# Altium schematic symbol library SparkFun-Jumpers.SCHLIB: 18 symbols
Pins are listed as number, name and electrical type; pins without a type are passive.

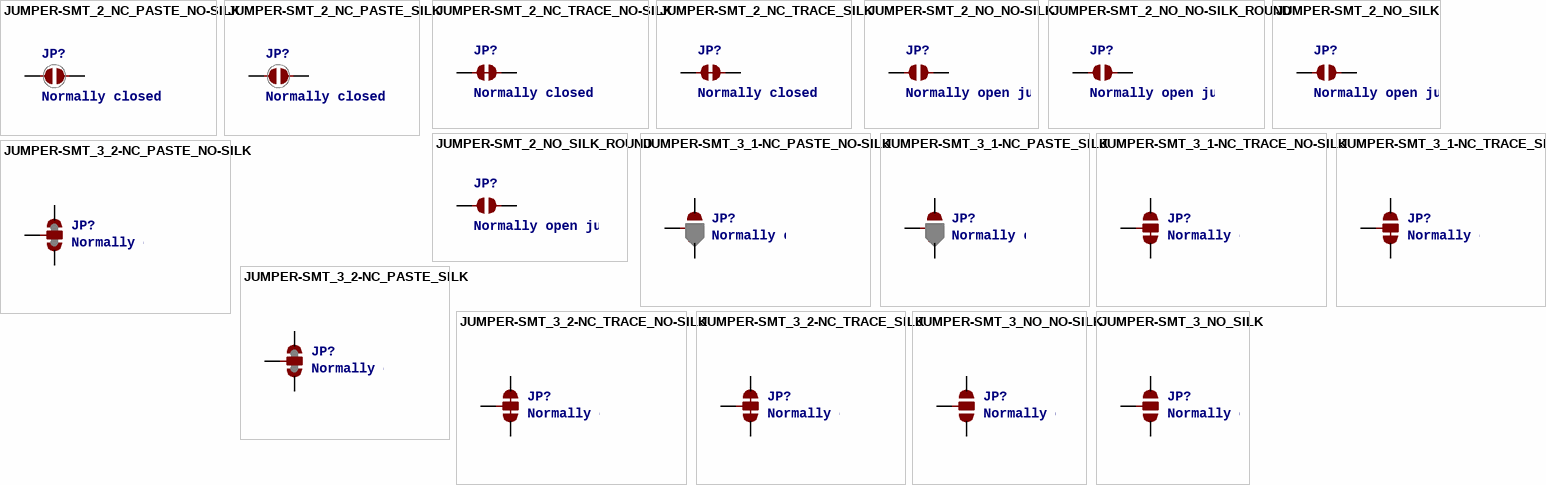
[diagram p0: symbols JUMPER-SMT_2_NC_PASTE_NO-SILK to JUMPER-SMT_3_NO_SILK]

## JUMPER-SMT_2_NC_PASTE_NO-SILK
designator JP?, comment Normally closed solder jumper    This jumper has an aperture in the stencil to allow solder paste to bridge the split in the wire so it's normally closed (NC). Wick off the solder to open the connection. Reapply solder to reclose the connection.
footprint SMT-JUMPER_2_NC_PASTE_NO-SILK
pins: 1, 2

## JUMPER-SMT_2_NC_PASTE_SILK
designator JP?, comment Normally closed solder jumper    This jumper has an aperture in the stencil to allow solder paste to bridge the split in the wire so it's normally closed (NC). Wick off the solder to open the connection. Reapply solder to reclose the connection.
footprint SMT-JUMPER_2_NC_PASTE_SILK
pins: 1, 2

## JUMPER-SMT_2_NC_TRACE_NO-SILK
designator JP?, comment Normally closed trace jumper    This jumper has a trace between two pads so it's normally closed (NC). Use a razor knife to open the connection. For best results follow the IPC guidelines for cutting traces: Cutout at least 0.063 mm (0.005 in).  Remove all loose material to clean up the cut area.  Seal the cut with an approved epoxy.       Reapply solder to reclose the connection.
footprint SMT-JUMPER_2_NC_TRACE_NO-SILK
pins: 1, 2

## JUMPER-SMT_2_NC_TRACE_SILK
designator JP?, comment Normally closed trace jumper    This jumper has a trace between two pads so it's normally closed (NC). Use a razor knife to open the connection. For best results follow the IPC guidelines for cutting traces: Cutout at least 0.063 mm (0.005 in).  Remove all loose material to clean up the cut area.  Seal the cut with an approved epoxy.       Reapply solder to reclose the connection.
footprint SMT-JUMPER_2_NC_TRACE_SILK
pins: 1, 2

## JUMPER-SMT_2_NO_NO-SILK
designator JP?, comment Normally open jumper    This jumper has two pads in close proximity to each other. Apply solder to close the connection.   Round pads are easier to solder for beginners, but are a lot larger.   SparkFun Product that uses the round pads:  SparkFun EL Sequencer
footprint SMT-JUMPER_2_NO_NO-SILK
pins: 1, 2

## JUMPER-SMT_2_NO_NO-SILK_ROUND
designator JP?, comment Normally open jumper    This jumper has two pads in close proximity to each other. Apply solder to close the connection.   Round pads are easier to solder for beginners, but are a lot larger.   SparkFun Product that uses the round pads:  SparkFun EL Sequencer
footprint SMT-JUMPER_2_NO_NO-SILK_ROUND
pins: 1, 2

## JUMPER-SMT_2_NO_SILK
designator JP?, comment Normally open jumper    This jumper has two pads in close proximity to each other. Apply solder to close the connection.   Round pads are easier to solder for beginners, but are a lot larger.   SparkFun Product that uses the round pads:  SparkFun EL Sequencer
footprint SMT-JUMPER_2_NO_SILK
pins: 1, 2

## JUMPER-SMT_2_NO_SILK_ROUND
designator JP?, comment Normally open jumper    This jumper has two pads in close proximity to each other. Apply solder to close the connection.   Round pads are easier to solder for beginners, but are a lot larger.   SparkFun Product that uses the round pads:  SparkFun EL Sequencer
footprint SMT-JUMPER_2_NO_SILK_ROUND
pins: 1, 2

## JUMPER-SMT_3_1-NC_PASTE_NO-SILK
designator JP?, comment Normally closed solder jumper (1 of 2 connections)    This jumper has an aperture in the stencil to allow solder paste to bridge one of the two connections. One connection is normally closed (NC), while the other is normally open (NO). Wick off the solder to open the connection. Reapply solder to reclose the connection. Apply solder to the other side instead to change the current path.
footprint SMT-JUMPER_3_1-NC_PASTE_NO-SILK
pins: 1, 2, 3

## JUMPER-SMT_3_1-NC_PASTE_SILK
designator JP?, comment Normally closed solder jumper (1 of 2 connections)    This jumper has an aperture in the stencil to allow solder paste to bridge one of the two connections. One connection is normally closed (NC), while the other is normally open (NO). Wick off the solder to open the connection. Reapply solder to reclose the connection. Apply solder to the other side instead to change the current path.
footprint SMT-JUMPER_3_1-NC_PASTE_SILK
pins: 1, 2, 3

## JUMPER-SMT_3_1-NC_TRACE_NO-SILK
designator JP?, comment Normally closed trace jumper (1 of 2 connections)    This jumper has a trace between two pads so it's normally closed (NC). The other connection is normally open (NO). Use a razor knife to open the connection. For best results follow the IPC guidelines for cutting traces: Cutout at least 0.063 mm (0.005 in).  Remove all loose material to clean up the cut area.  Seal the cut with an approved epoxy.       Reapply solder to reclose the connection, or to close the NO connection.
footprint SMT-JUMPER_3_1-NC_TRACE_NO-SILK
pins: 1, 2, 3

## JUMPER-SMT_3_1-NC_TRACE_SILK
designator JP?, comment Normally closed trace jumper (1 of 2 connections)    This jumper has a trace between two pads so it's normally closed (NC). The other connection is normally open (NO). Use a razor knife to open the connection. For best results follow the IPC guidelines for cutting traces: Cutout at least 0.063 mm (0.005 in).  Remove all loose material to clean up the cut area.  Seal the cut with an approved epoxy.       Reapply solder to reclose the connection, or to close the NO connection.
footprint SMT-JUMPER_3_1-NC_TRACE_SILK
pins: 1, 2, 3

## JUMPER-SMT_3_2-NC_PASTE_NO-SILK
designator JP?, comment Normally closed solder jumper (2 of 2 connections)    This jumper has an aperture in the stencil to allow solder paste to bridge both connections. Both connections are normally closed (NC). Wick off the solder to open the connection(s). Reapply solder to reclose the connection(s).
footprint SMT-JUMPER_3_2-NC_PASTE_NO-SILK
pins: 1, 2, 3

## JUMPER-SMT_3_2-NC_PASTE_SILK
designator JP?, comment Normally closed solder jumper (2 of 2 connections)    This jumper has an aperture in the stencil to allow solder paste to bridge both connections. Both connections are normally closed (NC). Wick off the solder to open the connection(s). Reapply solder to reclose the connection(s).
footprint SMT-JUMPER_3_2-NC_PASTE_SILK
pins: 1, 2, 3

## JUMPER-SMT_3_2-NC_TRACE_NO-SILK
designator JP?, comment Normally closed trace jumper (2 of 2 connections)    This jumper has a trace between all three pads so they are normally closed (NC). Use a razor knife to open the connection(s). For best results follow the IPC guidelines for cutting traces: Cutout at least 0.063 mm (0.005 in).  Remove all loose material to clean up the cut area.  Seal the cut with an approved epoxy.       Reapply solder to reclose the connection(s).
footprint SMT-JUMPER_3_2-NC_TRACE_NO-SILK
pins: 1, 2, 3

## JUMPER-SMT_3_2-NC_TRACE_SILK
designator JP?, comment Normally closed trace jumper (2 of 2 connections)    This jumper has a trace between all three pads so they are normally closed (NC). Use a razor knife to open the connection(s). For best results follow the IPC guidelines for cutting traces: Cutout at least 0.063 mm (0.005 in).  Remove all loose material to clean up the cut area.  Seal the cut with an approved epoxy.       Reapply solder to reclose the connection(s).
footprint SMT-JUMPER_3_2-NC_TRACE_SILK
pins: 1, 2, 3

## JUMPER-SMT_3_NO_NO-SILK
designator JP?, comment Normally open jumper    This jumper has three pads in close proximity to each other. Apply solder to close the connection(s).
footprint SMT-JUMPER_3_NO_NO-SILK
pins: 1, 2, 3

## JUMPER-SMT_3_NO_SILK
designator JP?, comment Normally open jumper    This jumper has three pads in close proximity to each other. Apply solder to close the connection(s).
footprint SMT-JUMPER_3_NO_SILK
pins: 1, 2, 3